# Altium footprint library PELT_DRIVE.PcbLib: 35 footprints (part 2 of 3)
Each footprint in its own frame and in the unit in brackets; x right, y up, seen from the top. Pads: shape width x height; smd on the part's side, far side on the other; paste and mask are expansions set on the pad; w line width, h text height; cw(c..) or ccw(c..) is an arc to the next point about the centre after c.
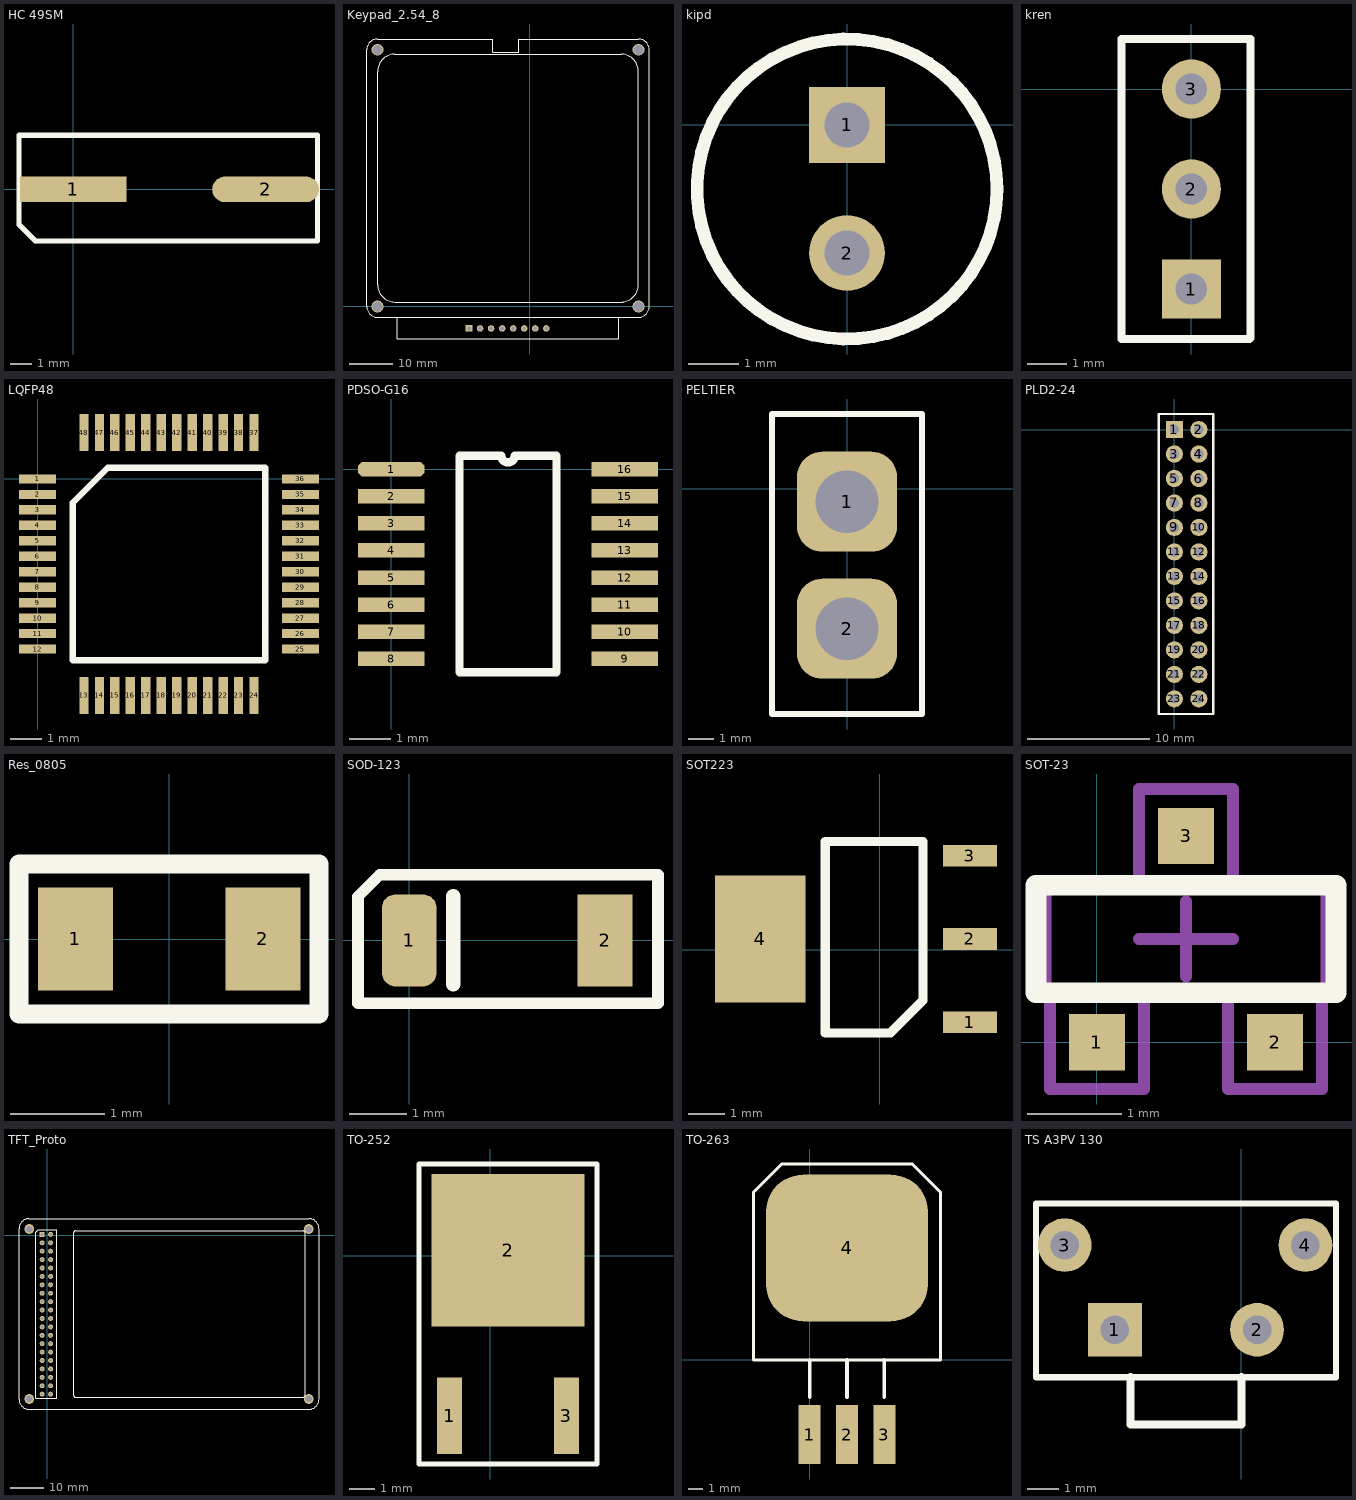
[diagram p1: the footprints below, top view; thin cyan lines are the x and y axes]

## HC 49SM [mm]
pads (2):
  rect 5x1.2 smd: 1(0,0)
  oval 5x1.2 smd: 2(9,0)
Top Overlay:
  lines w0.254: -2.54,-1.651 -2.54,2.54 1.27,2.54 11.43,2.54 11.43,-2.413 8.128,-2.413 -1.778,-2.413 -2.54,-1.651

## Keypad_2.54_8 [mm]
pads (8):
  rect 1.5x1.5 hole 0.9: 1(-13.97,-5.08)
  round 1.5 hole 0.9: 2(-11.43,-5.08) 3(-8.89,-5.08) 4(-6.35,-5.08) 5(-3.81,-5.08) 6(-1.27,-5.08) 7(1.27,-5.08) 8(3.81,-5.08)
via -35,0 diameter 2.7 hole 2.3
via 25,0 diameter 2.7 hole 2.3
via 25,59 diameter 2.7 hole 2.3
via -35,59 diameter 2.7 hole 2.3
Top Overlay:
  lines w0.254: -30.5,-2.5 -30.5,-7.5 -17,-7.5 20.5,-7.5 20.5,-2.5 ; 21,1 ccw(c21,5) 25,5 25,54 ccw(c21,54) 21,58 -31,58 ccw(c-31,54) -35,54 -35,5 ccw(c-31,5) -31,1 21.5,1 ; -37.5,0 ccw(c-35,0) -35,-2.5 25,-2.5 ccw(c25,0) 27.5,0 27.5,59 ccw(c25,59) 25,61.5 -2.5,61.5 -2.5,58.5 -8.5,58.5 -8.5,61.5 -35,61.5 ccw(c-35,59) -37.5,59 -37.5,0

## kipd [mm]
pads (2):
  rect 1.5x1.5 hole 0.9: 1(0,0)
  round 1.5 hole 0.9: 2(0,-2.54)
Top Overlay:
  circle w0.254: c0,-1.27 r2.976

## kren [mm] "L78L05"
height 10
pads (3):
  rect 1.5x1.5 hole 0.8: 1(0,-5.08)
  round 1.5 hole 0.8: 2(0,-2.54) 3(0,0)
Top Overlay:
  lines w0.2: -1.778,-6.35 -1.778,1.27 1.5,1.27 1.5,0.484 1.5,-0.024 1.5,-6.326 1.476,-6.35 -1.778,-6.35
3D body "TO-92_line_pin_2_5mm_pitch.stp": height 8.2, standoff -3, extent -2.56,-5.322 1.898,0.254

## LQFP48 [mm] "LQFP-48"
height 2
pads (48):
  rect 1.2x0.3 smd: 1(0,0) 2(0,-0.5) 3(0,-1) 4(0,-1.5) 5(0,-2) 6(0,-2.5) 7(0,-3) 8(0,-3.5) 9(0,-4) 10(0,-4.5) 11(0,-5) 12(0,-5.5) 25(8.5,-5.5) 26(8.5,-5) 27(8.5,-4.5) 28(8.5,-4) 29(8.5,-3.5) 30(8.5,-3) 31(8.5,-2.5) 32(8.5,-2) 33(8.5,-1.5) 34(8.5,-1) 35(8.5,-0.5) 36(8.5,0)
  rect 0.3x1.2 smd: 13(1.5,-7) 14(2,-7) 15(2.5,-7) 16(3,-7) 17(3.5,-7) 18(4,-7) 19(4.5,-7) 20(5,-7) 21(5.5,-7) 22(6,-7) 23(6.5,-7) 24(7,-7) 37(7,1.5) 38(6.5,1.5) 39(6,1.5) 40(5.5,1.5) 41(5,1.5) 42(4.5,1.5) 43(4,1.5) 44(3.5,1.5) 45(3,1.5) 46(2.5,1.5) 47(2,1.5) 48(1.5,1.5)
Top Overlay:
  lines w0.2: 1.135,-5.865 1.135,-0.77 2.27,0.365 7.365,0.365 7.365,-5.865 1.135,-5.865
3D body "User Library-LQFP48-2.STEP": height 1.62, standoff -0.01, extent -0.3,-7.343 8.843,1.8

## PDSO-G16 [mm]
pads (16):
  oct 1.6x0.35 smd: 1(0,0)
  rect 1.6x0.35 smd: 2(0,-0.65) 3(0,-1.3) 4(0,-1.95) 5(0,-2.6) 6(0,-3.25) 7(0,-3.9) 8(0,-4.55) 9(5.6,-4.55) 10(5.6,-3.9) 11(5.6,-3.25) 12(5.6,-2.6) 13(5.6,-1.95) 14(5.6,-1.3) 15(5.6,-0.65) 16(5.6,0)
Top Overlay:
  lines w0.2: 1.635,-4.875 3.965,-4.875 3.965,0.325 2.962,0.325 cw(c2.8,0.325) 2.638,0.325 1.635,0.325 1.635,-4.875

## PELTIER [mm] "Peltier Element"
height 3
pads (2):
  rrect50% 4x4 hole 2.5: 1(0,-0.508) 2(0,-5.588)
Top Overlay:
  lines w0.254: -3,-9 3,-9 3,3 -3,3 -3,-8.5 -3,-9

## PLD2-24 [mm]
pads (24):
  rect 1.4x1.4 hole 0.8: 1(0,0)
  round 1.4 hole 0.8: 2(2,0) 3(0,-2) 4(2,-2) 5(0,-4) 6(2,-4) 7(0,-6) 8(2,-6) 9(0,-8) 10(2,-8) 11(0,-10) 12(2,-10) 13(0,-12) 14(2,-12) 15(0,-14) 16(2,-14) 17(0,-16) 18(2,-16) 19(0,-18) 20(2,-18) 21(0,-20) 22(2,-20) 23(0,-22) 24(2,-22)
Top Overlay:
  lines w0.2: 0.5,1.27 3.175,1.27 3.175,-23.241 -1.27,-23.241 -1.27,1.27 1.5,1.27

## Res_0805 [mm]
height 4.5
pads (2):
  rect 0.8x1.1 smd: 1(-1,0) 2(1,0)
Top Overlay:
  lines w0.2: -1.6,-0.8 1.6,-0.8 1.6,0.8 -1.6,0.8 -1.6,-0.117 -1.6,-0.8
3D body "User Library-R_0805.step": height 0.5, standoff 0, extent -1,-0.625 1,0.625

## SOD-123 [mm]
pads (2):
  rrect50% 0.95x1.6 smd: 1(0,0)
  rect 0.95x1.6 smd: 2(3.4,0)
Top Overlay:
  lines w0.2: 3.956,1.143 4.191,1.143 ; -0.889,-1.094 -0.889,0.762 -0.508,1.143 4.318,1.143 4.318,-1.094 1.31,-1.094 0.83,-1.094 0.332,-1.094 -0.889,-1.094
  lines w0.254: 0.762,-0.762 0.762,0.762

## SOT223 [mm] "SOT223"
height 2
pads (4):
  rect 1.5x0.6 smd: 1(2.5,-2) 2(2.5,0.3) 3(2.5,2.6)
  rect 2.5x3.5 smd: 4(-3.3,0.3)
Top Overlay:
  lines w0.254: -1.5,-2.3 -1.5,3 1.2,3 1.2,-1.4 0.3,-2.3 -0.225,-2.3 -0.875,-2.3 -1.5,-2.3

## SOT-23 [mm] "SOT23, 3-Leads, Body 2.9x1.3mm, Pitch 0.95mm, Lead Span 2.3mm - Reverse Pinning, IPC Medium Density"
height 1.1
pads (3):
  rect 0.6x0.6 smd: 1(0,0) 2(1.9,0) 3(0.95,2.2)
Top Overlay:
  lines w0.22: -0.65,0.525 2.55,0.525 2.55,1.675 -0.65,1.675 -0.65,0.525
Mechanical 13:
  lines w0.127: -0.5,0.5 -0.5,-0.5 0.5,-0.5 0.5,0.5 ; 0.45,1.1 1.45,1.1 ; 0.45,1.7 0.45,2.7 1.45,2.7 1.45,1.7 ; 0.95,0.7 0.95,1.5 ; 1.4,0.5 1.4,-0.5 2.4,-0.5 2.4,0.5 ; -0.55,0.5 -0.55,1.7 2.45,1.7 2.45,0.5 -0.55,0.5
3D body "SW3dPS-3-lead sot23-3.STEP": height 1.01, standoff -0.01, extent -0.51,-0.15 2.41,2.326

## TFT_Proto [mm]
pads (40):
  rect 1.5x1.5 hole 0.9: 1(-1.5,0.3)
  round 1.5 hole 0.9: 2(1.04,0.3) 3(-1.5,-2.24) 4(1.04,-2.24) 5(-1.5,-4.78) 6(1.04,-4.78) 7(-1.5,-7.32) 8(1.04,-7.32) 9(-1.5,-9.86) 10(1.04,-9.86) 11(-1.5,-12.4) 12(1.04,-12.4) 13(-1.5,-14.94) 14(1.04,-14.94) 15(-1.5,-17.48) 16(1.04,-17.48) 17(-1.5,-20.02) 18(1.04,-20.02) 19(-1.5,-22.56) 20(1.04,-22.56) 21(-1.5,-25.1) 22(1.04,-25.1) 23(-1.5,-27.64) 24(1.04,-27.64) 25(-1.5,-30.18) 26(1.04,-30.18) 27(-1.5,-32.72) 28(1.04,-32.72) 29(-1.5,-35.26) 30(1.04,-35.26) 31(-1.5,-37.8) 32(1.04,-37.8) 33(-1.5,-40.34) 34(1.04,-40.34) 35(-1.5,-42.88) 36(1.04,-42.88) 37(-1.5,-45.42) 38(1.04,-45.42) 39(-1.5,-47.96) 40(1.04,-47.96)
via -5.4,1.9 diameter 3 hole 2
via 79,1.9 diameter 3 hole 2
via -5.4,-49.4 diameter 3 hole 2
via 79,-49.4 diameter 3 hole 2
Top Overlay:
  lines w0.2: -3.405,-49.23 -0.23,-49.23 2.945,-49.23 2.945,-8.59 2.945,1.697 -2.643,1.697 -3.405,0.935 -3.405,-49.23
  lines w0.254: 71.4,-52.5 -5.5,-52.5 cw(c-5.5,-49.5) -8.5,-49.5 -8.5,2 cw(c-5.5,2) -5.5,5 79.1,5 cw(c79.1,2) 82.1,2 82.1,-49.5 cw(c79.1,-49.5) 79.1,-52.5 71.4,-52.5 ; 71.4,-52.5 71.4,-52.5 ; 8,-48.3 ccw(c8.6,-48.3) 8.6,-48.9 77.3,-48.9 ccw(c77.3,-48.3) 77.9,-48.3 77.9,0.8 ccw(c77.3,0.8) 77.3,1.4 8.6,1.4 ccw(c8.6,0.8) 8,0.8 8,-48.3

## TO-252 [mm] "TO252"
pads (3):
  rect 1x3 smd: 1(-1.6,-6.3) 3(3,-6.3)
  rect 6x6 smd: 2(0.7,0.2)
Top Overlay:
  lines w0.2: -2.8,-8.2 -2.8,3.6 -2.219,3.6 -1.376,3.6 4.2,3.6 4.2,-8.2 -2.8,-8.2

## TO-263 [mm]
pads (4):
  rect 1.5x4 smd: 1(0,-5.08) 2(2.54,-5.08) 3(5.08,-5.08)
  rrect50% 11x10 smd: 4(2.54,7.62)
Top Overlay:
  lines w0.2: -3.81,0 -3.81,11.43 -1.905,13.335 6.985,13.335 8.89,11.43 8.89,0 -3.81,0
  lines w0.254: 0,-2.54 0,0 ; 2.54,-2.54 2.54,0 ; 5.08,-2.54 5.08,0

## TS A3PV 130 [mm] "Button"
height 10
pads (4):
  rect 1.7x1.7 hole 0.9: 1(-4,-7)
  round 1.7 hole 0.9: 2(0.5,-7) 3(-5.588,-4.318) 4(2.032,-4.318)
Top Overlay:
  lines w0.2: -6.5,-8.5 -6.5,-3 3,-3 3,-8.5 -6.5,-8.5
  lines w0.254: -3.5,-8.5 -3.5,-10 0,-10 0,-8.5